# Altium footprint library Разъемы импортные.PcbLib: 127 footprints (part 8 of 8)
Each footprint in its own frame and in the unit in brackets; x right, y up, seen from the top. Pads: shape width x height; smd on the part's side, far side on the other; paste and mask are expansions set on the pad; w line width, h text height; cw(c..) or ccw(c..) is an arc to the next point about the centre after c.
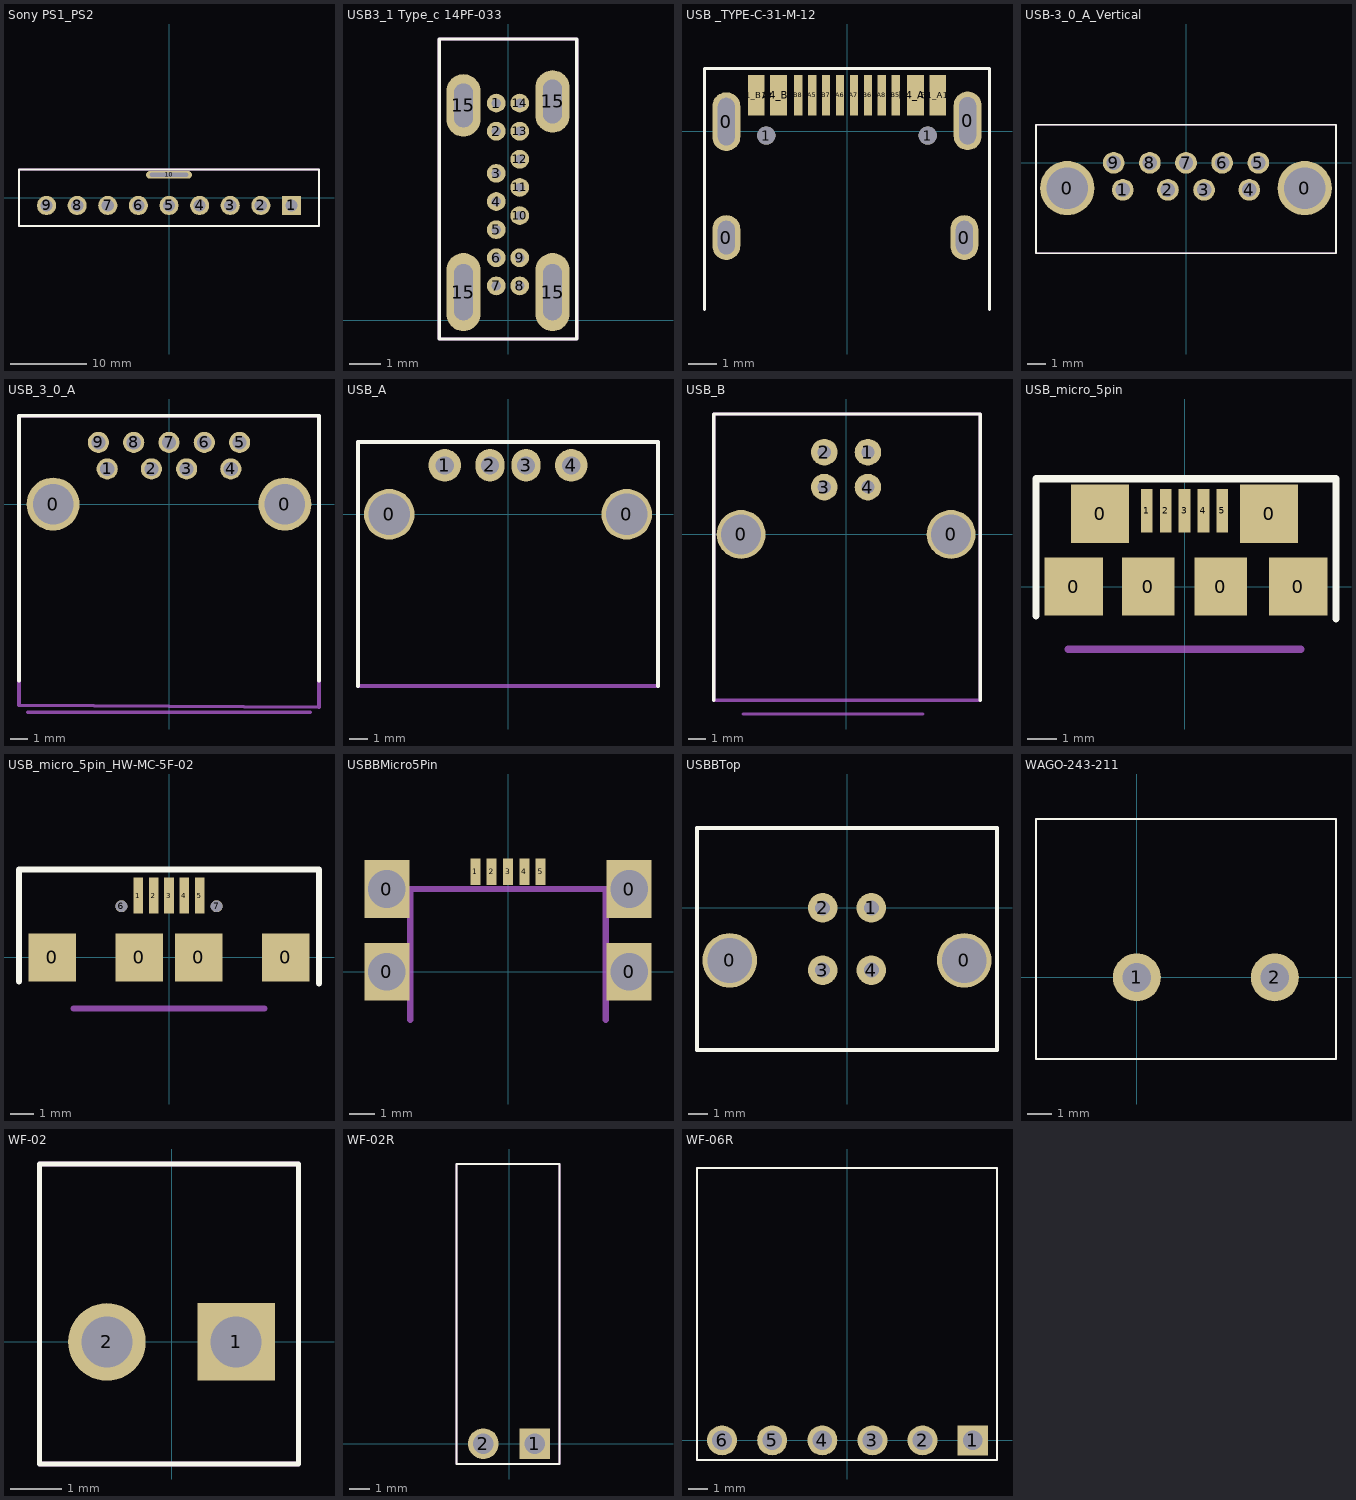
[diagram p7: the footprints below, top view; thin cyan lines are the x and y axes]

## Sony PS1_PS2 [mm]
pads (10):
  rect 2.5x2.5 hole 1.6: 1(16,-1)
  round 2.5 hole 1.6: 2(12,-1) 3(8,-1) 4(4,-1) 5(0,-1) 6(-4,-1) 7(-8,-1) 8(-12,-1) 9(-16,-1)
  oval 6x1 hole 0.5 slot 5 at 0 deg: 10(0,3)
Top Overlay:
  lines w0.254: -19.6,-3.7 19.6,-3.7 19.6,3.7 -19.6,3.7 -19.6,-3.7
TopAssy:
  lines w0.254: -19.6,-3.7 -19.6,3.7 19.6,3.7 19.6,-3.7 -19.6,-3.7
  text ".Designator" at -0.7,-1.3 h1.52
3D body "PlayStation_PS1.stp": height 17.2, standoff -4.6, extent -19.6,-3.7 19.6,3.7

## USB3_1 Type_c 14PF-033 [mm]
pads (18):
  round 0.6 hole 0.3 mask+0.05: 1(-0.375,6.95) 2(-0.375,6.05) 3(-0.375,4.7) 4(-0.375,3.8) 5(-0.375,2.9) 6(-0.375,2) 7(-0.375,1.1) 8(0.375,1.1) 9(0.375,2) 10(0.375,3.35) 11(0.375,4.25) 12(0.375,5.15) 13(0.375,6.05) 14(0.375,6.95)
  oval 1.1x2.5 hole 0.6 slot 1.8 at 90 deg mask+0.05: 15(-1.425,0.9) 15(1.425,0.9)
  oval 1.1x2 hole 0.6 slot 1.4 at 90 deg mask+0.05: 15(-1.425,6.875) 15(1.425,7)
Top Overlay:
  lines w0.1: -2.2,-0.6 2.2,-0.6 2.2,9 -2.2,9 -2.2,-0.6
TopAssy:
  lines w0.1: -2.2,-0.6 2.2,-0.6 2.2,9 -2.2,9 -2.2,-0.6
  text ".Designator" at -1.5,4 h1
3D body "jack-usbc-141th-4bac10.stp": height 9.1, standoff -1.77, extent -1.81,0 1.85,14

## USB _TYPE-C-31-M-12 [mm]
pads (18):
  oval 1x1.6 hole 0.6 slot 1.2 at 90 deg: 0(-4.32,-3.8) 0(4.2,-3.8)
  oval 1x2.1 hole 0.6 slot 1.7 at 90 deg: 0(-4.32,0.35) 0(4.32,0.38)
  round 0.65 hole 0.65 unplated: 1(-2.89,-0.15) 1(2.89,-0.15)
  rect 0.6x1.45 smd: A1_B12(-3.25,1.3) A4_B9(-2.45,1.3) B1_A12(3.25,1.295) B4_A9(2.45,1.295)
  rect 0.3x1.45 smd: A5(-1.25,1.295) A6(-0.25,1.295) A7(0.25,1.295) A8(1.25,1.295) B5(1.75,1.295) B6(0.75,1.295) B7(-0.75,1.295) B8(-1.75,1.295)
Top Overlay:
  lines w0.1: -5.1,-6.375 -5.1,2.25 5.1,2.25 5.1,-6.375
TopAssy:
  lines w0.1: -5.1,-6.375 -5.1,2.25 5.1,2.25 5.1,-6.375
  text ".Designator" at -2.2,-4.6 h1
3D body "USB_TYPE-C-31-M-12.step": height 3.31, standoff -0.95, extent -4.47,-6.4 4.47,1.35

## USB-3_0_A_Vertical [mm]
pads (11):
  round 3 hole 2.3: 0(-6.57,-1.4) 0(6.57,-1.4)
  round 1.2 hole 0.8: 1(-3.5,-1.5) 2(-1,-1.5) 3(1,-1.5) 4(3.5,-1.5) 5(4,0) 6(2,0) 7(0,0) 8(-2,0) 9(-4,0)
Top Overlay:
  lines w0.1: -8.3,-5 8.3,-5 8.3,2.1 -8.3,2.1 -8.3,-5
TopAssy:
  lines w0.1: -8.3,-5 8.3,-5 8.3,2.1 -8.3,2.1 -8.3,-5
  text ".Designator" at -3.1,-4.1 h1.52
3D body "USB-3_0_A_V_48408.stp": height 15, standoff -3.8, extent -7.798,-4.86 7.798,2.06

## USB_3_0_A [mm]
pads (11):
  round 3 hole 2.3: 0(-6.57,0) 0(6.57,0)
  round 1.2 hole 0.8: 1(-3.5,2) 2(-1,2) 3(1,2) 4(3.5,2) 5(4,3.5) 6(2,3.5) 7(0,3.5) 8(-2,3.5) 9(-4,3.5)
Top Overlay:
  lines w0.2: -8.5,-10 -8.5,5 8.5,5 8.5,-10
TopAssy:
  lines w0.2: -8,-11.78 8,-11.78 ; -8.5,-11.4 8.5,-11.5 8.5,5 -8.5,5 -8.5,-11.4
  text ".Designator" at -3.7,-5.1 h1.52
3D body "USB_3_0_A.stp": height 7.82, standoff -3.63, extent -8.05,-11.78 8.05,4.7

## USB_A [mm]
pads (6):
  round 2.8 hole 2.3: 0(-6.57,0) 0(6.57,0)
  round 1.8 hole 1: 1(-3.5,2.71) 4(3.5,2.71)
  oval 1.6x1.8 hole 1: 2(-1,2.71) 3(1,2.71)
Top Overlay:
  lines w0.2: -8.3,-9.5 -8.3,4 8.3,4 8.3,-9.5
TopAssy:
  lines w0.2: -8.3,-9.5 -8.3,4 8.3,4 8.3,-9.5 -8.3,-9.5
  text ".Designator" at -3.6,-1.8 h1.52
3D body "USB_A.stp": height 7.42, standoff -3.85, extent -8.117,-10.3 8.117,3.7

## USB_B [mm]
pads (6):
  round 2.8 hole 2.3: 0(-6.02,0) 0(6.02,0)
  round 1.524 hole 0.762: 1(1.25,4.71) 2(-1.25,4.71) 3(-1.25,2.71) 4(1.25,2.71)
Top Overlay:
  lines w0.2: -7.6,-9.5 -7.6,6.9 7.7,6.9 7.7,-9.5
TopAssy:
  lines w0.2: -5.9,-10.3 4.4,-10.3 ; -7.6,-9.5 -7.6,6.9 7.7,6.9 7.7,-9.5 -7.6,-9.5
  text ".Designator" at -2.7,-3.2 h1.52
3D body "USB_B.stp": height 11.5, standoff -3.72, extent -7.43,-10.275 7.43,6.725

## USB_micro_5pin [mm]
pads (11):
  rect 2x2 smd: 0(-3.8,0) 0(-2.9,2.5) 0(2.9,2.5) 0(3.9,0)
  rect 1.8x2 smd: 0(-1.25,0) 0(1.25,0)
  rect 0.4x1.5 smd: 1(-1.3,2.6) 2(-0.65,2.6) 3(0,2.6) 4(0.65,2.6) 5(1.3,2.6)
Top Overlay:
  lines w0.254: -5.1,-1 -5.1,3.7 5.2,3.7 5.2,-1.1
Mechanical 15:
  lines w0.254: -4,-2.15 4,-2.15
3D body "Micro USB.step": height 2.67, standoff -0.27, extent -3.99,-2.78 3.99,2.65

## USB_micro_5pin_HW-MC-5F-02 [mm]
pads (11):
  rect 2x2 smd: 0(-4.9,0) 0(-1.25,0) 0(1.25,0) 0(4.9,0)
  rect 0.4x1.5 smd: 1(-1.3,2.6) 2(-0.65,2.6) 3(0,2.6) 4(0.65,2.6) 5(1.3,2.6)
  round 0.5 hole 0.5 unplated: 6(-2,2.15) 7(2,2.15)
Top Overlay:
  lines w0.254: -6.3,-1 -6.3,3.7 6.3,3.7 6.3,-1.1
Mechanical 15:
  lines w0.254: -4,-2.15 4,-2.15
3D body "USB_micro_6302_1981584-1.stp": height 2.73, standoff -0.33, extent -4.4,-2.7 4.4,2.9

## USBBMicro5Pin [mm]
pads (9):
  rect 1.8x2.3 hole 1.5: 0(-4.825,0) 0(-4.825,3.3) 0(4.825,0) 0(4.825,3.3)
  rect 0.4x1.05 smd: 1(-1.3,3.994) 2(-0.65,3.994) 3(0,3.994) 4(0.65,3.994) 5(1.3,3.994)
Mechanical 4:
  lines w0.254: -3.9,-1.9 -3.9,3.3 3.9,3.3 3.9,-1.9

## USBBTop [mm]
pads (6):
  round 2.8 hole 2.3: 0(-6.02,-2.7) 0(6.02,-2.7)
  round 1.524 hole 0.762: 1(1.25,0) 2(-1.25,0) 3(-1.25,-3.2) 4(1.25,-3.2)
Top Overlay:
  lines w0.2: -7.7,-7.3 -7.7,4.1 7.7,4.1 7.7,-7.3 -7.7,-7.3
TopAssy:
  lines w0.1: -7.7,-7.3 7.7,-7.3
  lines w0.2: -7.7,-7.3 -7.7,4.1 7.7,4.1 7.7,-7.3
  text ".Designator" at -2.7,-3.2 h1.52
3D body "USB_B_top.stp": height 15.52, standoff -4.12, extent -7.575,-7.328 7.575,4.128

## WAGO-243-211 [mm]
pads (2):
  round 2 hole 1.2: 1(0,0) 2(5.75,0)
Top Overlay:
  lines w0.1: -4.2,-3.4 -4.2,6.6 8.3,6.6 8.3,-3.4 -4.2,-3.4
TopAssy:
  lines w0.1: -4.2,-3.4 8.3,-3.4 8.3,6.6 -4.2,6.6 -4.2,-3.4
  text ".Designator" at 0.7,1.1 h1
3D body "WAGO-243-211.STEP": height 10.5, standoff -2.5, extent -4.221,-3.398 8.279,6.602

## WF-02 [mil]
pads (2):
  rect 60x60 hole 39.37: 1(50,0)
  round 60 hole 39.37: 2(-50,0)
Top Overlay:
  lines w3.94: -102.36,-94.49 98.43,-94.49 98.43,137.8 -102.36,137.8 -102.36,-94.49
TopAssy:
  lines w3.94: -102.36,-94.49 98.43,-94.49 98.43,137.8 -102.36,137.8 -102.36,-94.49
  text ".Designator" at -86.61,78.74 h39.37
3D body "DS1070-2 (WF-2 CONNFLY).step": height 448.82, standoff -129.92, extent -100,-94.49 100,137.8

## WF-02R [mil]
pads (2):
  rect 60x60 hole 39.37: 1(50,0)
  round 60 hole 39.37: 2(-50,0)
Top Overlay:
  lines w3.94: -102.36,-39.37 98.43,-39.37 98.43,543.31 -102.36,543.31 -102.36,-39.37
TopAssy:
  lines w3.94: -102.36,-39.37 98.43,-39.37 98.43,543.31 -102.36,543.31 -102.36,-39.37
  text ".Designator" at -86.61,78.74 h39.37
3D body "DS1070-2MR (WF-2RA CONNFLY).step": height 232.28, standoff -133.86, extent -101.57,-11.81 98.43,543.31

## WF-06R [mil]
pads (6):
  rect 60x60 hole 39.37: 1(250,0)
  round 60 hole 39.37: 2(150,0) 3(50,0) 4(-50,0) 5(-150,0) 6(-250,0)
Top Overlay:
  lines w3.94: -300,-39.37 -300,543.31 298.43,543.31 298.43,-39.37 -300,-39.37
TopAssy:
  lines w3.94: -300,-39.37 -300,543.31 298.43,543.31 298.43,-39.37 -300,-39.37
  text ".Designator" at -86.61,78.74 h39.37
3D body "DS1070-6MR (WF-6RA CONNFLY).step": height 232.28, standoff -133.86, extent -300,-10 300,545.12